# EAGLE library part WE-GDTI_EP7_SCH2 (library Wurth_Power Magnetics_WE-GDTI)
WE-GDTI Gate-Drive-Transformer Characteristics Excellent performances in small package (EP7) 1 or 2 secondary windings 6 different turns ratio 2500 VAC test voltage Operating voltage up to 250 V Applications Suitable for signal and power application Designed for gate drive application high efficient SMPS Synchronous Flyback <https://katalog.we-online.com/media/images/v2/o14791v209%20Family_WE-GDTI.jpg> Details see: https://katalog.we-online.com/en/pbs/WE-GDTI Updated by Yingchun,Shan 2019-08-20 2019(C) Wurth Elektronik
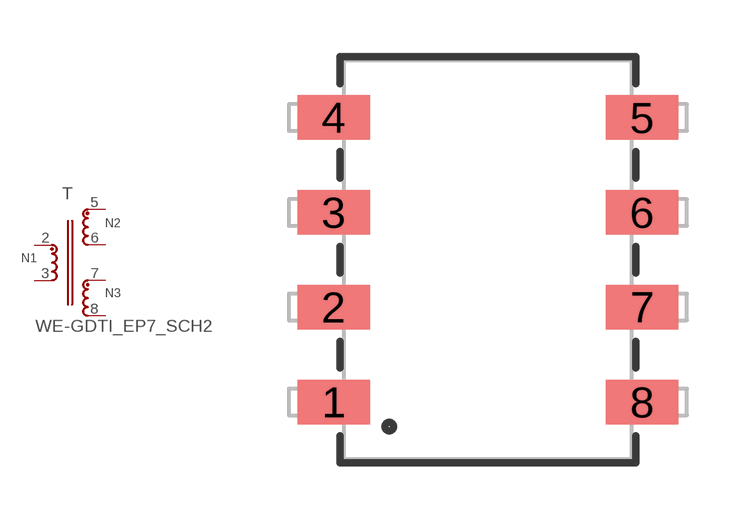
[diagram p0: symbol with the pads of WE-GDTI_EP7; footprint WE-GDTI_EP7]

Designator prefix T

## WE-GDTI_EP7_SCH2_760301301 (CWW1: 11pF; DATASHEET-URL: https://katalog.we-online.com/pbs/datasheet/760301301.pdf; LSMIN: 4uH; N: 1 : 1 : 1; PART-NUMBER: 760301301; RDC1: 1100mOhm; RDC2: 1300mOhm; RDC3: 1300mOhm; VALUE: 750uH; VDT: 102uVs; VT: 2500V(AC)), WE-GDTI_EP7_SCH2_760301303 (CWW1: 11pF; DATASHEET-URL: https://katalog.we-online.com/pbs/datasheet/760301303.pdf; LSMIN: 4uH; N: 2 : 1 : 1; PART-NUMBER: 760301303; RDC1: 1100mOhm; RDC2: 700mOhm; RDC3: 700mOhm; VALUE: 750uH; VDT: 102uVs; VT: 2500V(AC)), WE-GDTI_EP7_SCH2_760301304 (CWW1: 11pF; DATASHEET-URL: https://katalog.we-online.com/pbs/datasheet/760301304.pdf; LSMIN: 5uH; N: 2.5 : 1 : 1; PART-NUMBER: 760301304; RDC1: 1300mOhm; RDC2: 600mOhm; RDC3: 600mOhm; VALUE: 1080uH; VDT: 120uVs; VT: 2500V(AC)), WE-GDTI_EP7_SCH2_760301305 (CWW1: 11pF; DATASHEET-URL: https://katalog.we-online.com/pbs/datasheet/760301305.pdf; LSMIN: 3.5uH; N: 1.5 : 1 : 1; PART-NUMBER: 760301305; RDC1: 1000mOhm; RDC2: 900mOhm; RDC3: 900mOhm; VALUE: 735uH; VDT: 99uVs; VT: 2500V(AC)), WE-GDTI_EP7_SCH2_760301306 (CWW1: 11pF; DATASHEET-URL: https://katalog.we-online.com/pbs/datasheet/760301306.pdf; LSMIN: 7.5uH; N: 3 : 1 : 1; PART-NUMBER: 760301306; RDC1: 1600mOhm; RDC2: 650mOhm; RDC3: 650mOhm; VALUE: 1800uH; VDT: 140uVs; VT: 2500V(AC))  [WE-GDTI_EP7]
2  1  pas
3  2  pas
5  6  pas
6  5  pas
7  4  pas
8  3  pas

## Footprint WE-GDTI_EP7 (pad centres in mm)
WE-GDTI Gate-Drive-Transformer Size EP7, SMD 8Pin
smd 1.91 x 1.17: 1 -4.065,-3.75; 2 -4.065,-1.25; 3 -4.065,1.25; 4 -4.065,3.75; 5 4.065,3.75; 6 4.065,1.25; 7 4.065,-1.25; 8 4.065,-3.75